# EAGLE library part HEADER_40P (library Public)
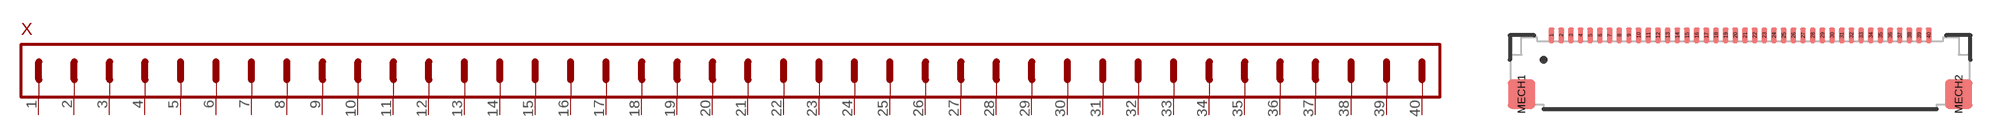
[diagram p137: symbol with the pads of FPC_40_MOLEX_51296-4094; footprint FPC_40_MOLEX_51296-4094]

Designator prefix X

## HEADER_40P(FPC_MOLEX_51296-4094) (ID: 51296-4094)  [FPC_40_MOLEX_51296-4094]
1  PIN1
2  PIN2
3  PIN3
4  PIN4
5  PIN5
6  PIN6
7  PIN7
8  PIN8
9  PIN9
10  PIN10
11  PIN11
12  PIN12
13  PIN13
14  PIN14
15  PIN15
16  PIN16
17  PIN17
18  PIN18
19  PIN19
20  PIN20
21  PIN21
22  PIN22
23  PIN23
24  PIN24
25  PIN25
26  PIN26
27  PIN27
28  PIN28
29  PIN29
30  PIN30
31  PIN31
32  PIN32
33  PIN33
34  PIN34
35  PIN35
36  PIN36
37  PIN37
38  PIN38
39  PIN39
40  PIN40

## Footprint FPC_40_MOLEX_51296-4094 (pad centres in mm)
smd 0.3 x 0.8: 1 -9.75,0; 2 -9.25,0; 3 -8.75,0; 4 -8.25,0; 5 -7.75,0; 6 -7.25,0; 7 -6.75,0; 8 -6.25,0; 9 -5.75,0; 10 -5.25,0; 11 -4.75,0; 12 -4.25,0; 13 -3.75,0; 14 -3.25,0; 15 -2.75,0; 16 -2.25,0; 17 -1.75,0; 18 -1.25,0; 19 -0.75,0; 20 -0.25,0; 21 0.25,0; 22 0.75,0; 23 1.25,0; 24 1.75,0; 25 2.25,0; 26 2.75,0; 27 3.25,0; 28 3.75,0; 29 4.25,0; 30 4.75,0; 31 5.25,0; 32 5.75,0; 33 6.25,0; 34 6.75,0; 35 7.25,0; 36 7.75,0; 37 8.25,0; 38 8.75,0; 39 9.25,0; 40 9.75,0
smd 1.4 x 1.5: MECH1 -11.3,-3.05; MECH2 11.3,-3.05